# EAGLE library part MCP604-I_P (library 154N_NAU7802_TH)
Microchip MCP604-I/P, Quad Op Amp, 2.8MHz CMOS, Rail to Rail, 3 V, 5 V, 14-Pin PDIP Source: Datasheet <http://uk.rs-online.com/web/p/products/3792645P>
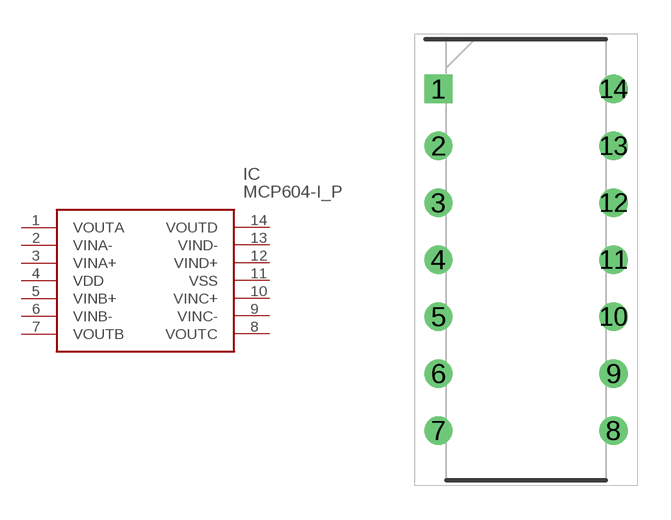
[diagram p3: symbol with the pads of DIP781W56P254L1918H533Q14N; footprint DIP781W56P254L1918H533Q14N]

Designator prefix IC

## MCP604-I_P (ALLIED_NUMBER: 70045432; DESCRIPTION: Microchip MCP604-I/P, Quad Op Amp, 2.8MHz CMOS, Rail to Rail, 3 V, 5 V, 14-Pin PDIP; HEIGHT: 5.334mm; MANUFACTURER_NAME: Microchip; MANUFACTURER_PART_NUMBER: MCP604-I/P; RS_PART_NUMBER: 3792645P; RS_PRICE-STOCK: http://uk.rs-online.com/web/p/products/3792645P)  [DIP781W56P254L1918H533Q14N]
1  VOUTA
2  VINA-
3  VINA+
4  VDD
5  VINB+
6  VINB-
7  VOUTB
8  VOUTC
9  VINC-
10  VINC+
11  VSS
12  VIND+
13  VIND-
14  VOUTD

## Footprint DIP781W56P254L1918H533Q14N (pad centres in mm)
14-Lead PDIP (P) - 300 mil Body [PDIP]
drill 0.759 pad 1.159 square: 1 -3.905,7.62
drill 0.759 pad 1.159: 2 -3.905,5.08; 3 -3.905,2.54; 4 -3.905,0; 5 -3.905,-2.54; 6 -3.905,-5.08; 7 -3.905,-7.62; 8 3.905,-7.62; 9 3.905,-5.08; 10 3.905,-2.54; 11 3.905,0; 12 3.905,2.54; 13 3.905,5.08; 14 3.905,7.62